# Altium schematic symbol library Interface_I2C.SchLib: 424 symbols (part 18 of 23)
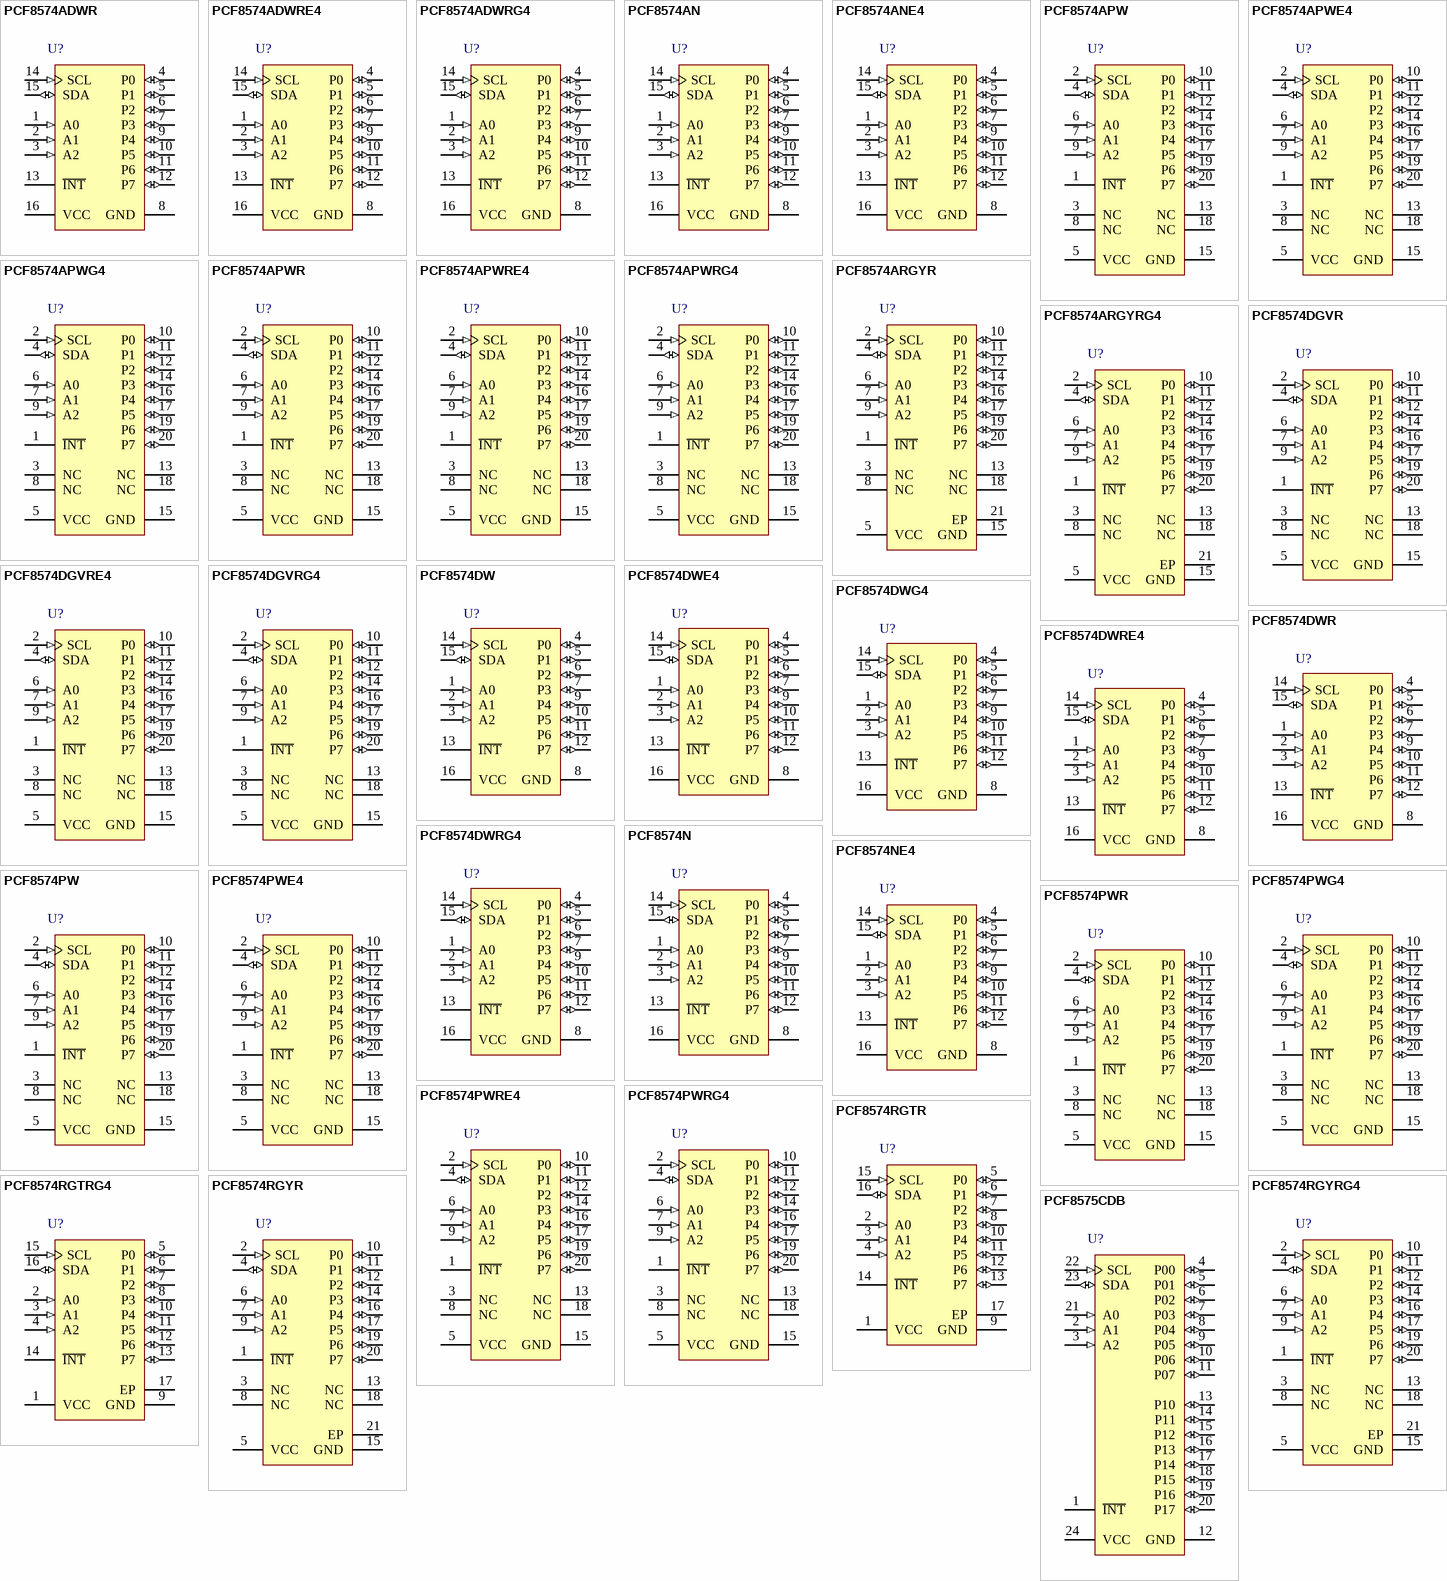
[diagram p30: symbols PCF8574ADWR to PCF8575CDB]

## PCF8574PWR
designator U?
Remote 8-Bit I/O Expander for I2C-Bus, 2.5 to 6 V, -40 to 85 degC, 20-pin TSSOP (PW), Green (RoHS & no Sb/Br); Manufacturer: Texas Instruments; PartNumber: PCF8574PWR; SubFamily: I2C IO Expander; Voltage Nodes(V): 5, 3.3; Interrupt Output: Yes; fSCLK(Max)(MHz): 0.1; VCC(Min)(V): 2.5; VCC(Max)(V): 6; Max Frequency(kHz): 100; I2C Address: 0100 xxx; # of I/Os: 8; Vcc range(V): 2.5 to 6.0; DatasheetVersion: SCPS068G; PackageVersion: revG, Feb-2011; PackageReference: PW20; PackageDescription: 20-Pin Plastic Thin Small Outline Package 6.5 x 4.4 mm Body ,0.65 mm Pitch; Supplier 1: Digi-Key; Supplier Part Number 1: 296-13110-2-ND; Supplier 2: Digi-Key; Supplier Part Number 2: 296-13110-1-ND; Supplier 3: Digi-Key; Supplier Part Number 3: 296-13110-6-ND; Supplier 4: Farnell; Supplier Part Number 4: 2120431; Supplier 5: Newark; Supplier Part Number 5: 94T5013; Supplier 6: Newark; Supplier Part Number 6: 75C5239; Supplier 7: Mouser; Supplier Part Number 7: 595-PCF8574PWR; Eco-Plan: Green (RoHS & no Sb/Br); Reset Input: No; Push-Pull I/O Type: Yes; Mounting Technology: Surface Mount; Code_JEDEC: MO-153; ComponentLink1Description: Datasheet; ComponentLink1URL: http://www.ti.com/general/docs/lit/getliterature.tsp?genericPartNumber=PCF8574&fileType=pdf
footprint PW20_N (TSOP, 20-Leads, Body 6.5x4.4mm, Pitch 0.65mm, IPC Medium Density)
footprint PW20_L (TSOP, 20-Leads, Body 6.5x4.4mm, Pitch 0.65mm, IPC High Density)
footprint PW20_M (TSOP, 20-Leads, Body 6.5x4.4mm, Pitch 0.65mm, IPC Low Density)
pins: 1 ~{INT} (oc), 2 SCL (in), 3 NC, 4 SDA (io), 5 VCC (power), 6 A0 (in), 7 A1 (in), 8 NC, 9 A2 (in), 10 P0 (io), 11 P1 (io), 12 P2 (io), 13 NC, 14 P3 (io), 15 GND (power), 16 P4 (io), 17 P5 (io), 18 NC, 19 P6 (io), 20 P7 (io)

## PCF8574PWRE4
designator U?
Remote 8-Bit I/O Expander for I2C-Bus, 2.5 to 6 V, -40 to 85 degC, 20-pin TSSOP (PW), Green (RoHS & no Sb/Br); Manufacturer: Texas Instruments; PartNumber: PCF8574PWRE4; SubFamily: I2C IO Expander; Voltage Nodes(V): 5, 3.3; Interrupt Output: Yes; fSCLK(Max)(MHz): 0.1; VCC(Min)(V): 2.5; VCC(Max)(V): 6; Max Frequency(kHz): 100; I2C Address: 0100 xxx; # of I/Os: 8; Vcc range(V): 2.5 to 6.0; DatasheetVersion: SCPS068G; PackageVersion: revG, Feb-2011; PackageReference: PW20; PackageDescription: 20-Pin Plastic Thin Small Outline Package 6.5 x 4.4 mm Body ,0.65 mm Pitch; Supplier 1: Digi-Key; Supplier Part Number 1: PCF8574PWRE4-ND; Supplier 2: Mouser; Supplier Part Number 2: 595-PCF8574PWRE4; Eco-Plan: Green (RoHS & no Sb/Br); Reset Input: No; Push-Pull I/O Type: Yes; Mounting Technology: Surface Mount; Code_JEDEC: MO-153; ComponentLink1Description: Datasheet; ComponentLink1URL: http://www.ti.com/general/docs/lit/getliterature.tsp?genericPartNumber=PCF8574&fileType=pdf
footprint PW20_N (TSOP, 20-Leads, Body 6.5x4.4mm, Pitch 0.65mm, IPC Medium Density)
footprint PW20_L (TSOP, 20-Leads, Body 6.5x4.4mm, Pitch 0.65mm, IPC High Density)
footprint PW20_M (TSOP, 20-Leads, Body 6.5x4.4mm, Pitch 0.65mm, IPC Low Density)
pins: 1 ~{INT} (oc), 2 SCL (in), 3 NC, 4 SDA (io), 5 VCC (power), 6 A0 (in), 7 A1 (in), 8 NC, 9 A2 (in), 10 P0 (io), 11 P1 (io), 12 P2 (io), 13 NC, 14 P3 (io), 15 GND (power), 16 P4 (io), 17 P5 (io), 18 NC, 19 P6 (io), 20 P7 (io)

## PCF8574PWRG4
designator U?
Remote 8-Bit I/O Expander for I2C-Bus, 2.5 to 6 V, -40 to 85 degC, 20-pin TSSOP (PW), Green (RoHS & no Sb/Br); Manufacturer: Texas Instruments; PartNumber: PCF8574PWRG4; SubFamily: I2C IO Expander; Voltage Nodes(V): 5, 3.3; Interrupt Output: Yes; fSCLK(Max)(MHz): 0.1; VCC(Min)(V): 2.5; VCC(Max)(V): 6; Max Frequency(kHz): 100; I2C Address: 0100 xxx; # of I/Os: 8; Vcc range(V): 2.5 to 6.0; DatasheetVersion: SCPS068G; PackageVersion: revG, Feb-2011; PackageReference: PW20; PackageDescription: 20-Pin Plastic Thin Small Outline Package 6.5 x 4.4 mm Body ,0.65 mm Pitch; Supplier 1: Digi-Key; Supplier Part Number 1: PCF8574PWRG4-ND; Supplier 2: Mouser; Supplier Part Number 2: 595-PCF8574PWRG4; Eco-Plan: Green (RoHS & no Sb/Br); Reset Input: No; Push-Pull I/O Type: Yes; Mounting Technology: Surface Mount; Code_JEDEC: MO-153; ComponentLink1Description: Datasheet; ComponentLink1URL: http://www.ti.com/general/docs/lit/getliterature.tsp?genericPartNumber=PCF8574&fileType=pdf
footprint PW20_N (TSOP, 20-Leads, Body 6.5x4.4mm, Pitch 0.65mm, IPC Medium Density)
footprint PW20_L (TSOP, 20-Leads, Body 6.5x4.4mm, Pitch 0.65mm, IPC High Density)
footprint PW20_M (TSOP, 20-Leads, Body 6.5x4.4mm, Pitch 0.65mm, IPC Low Density)
pins: 1 ~{INT} (oc), 2 SCL (in), 3 NC, 4 SDA (io), 5 VCC (power), 6 A0 (in), 7 A1 (in), 8 NC, 9 A2 (in), 10 P0 (io), 11 P1 (io), 12 P2 (io), 13 NC, 14 P3 (io), 15 GND (power), 16 P4 (io), 17 P5 (io), 18 NC, 19 P6 (io), 20 P7 (io)

## PCF8574RGTR
designator U?
Remote 8-Bit I/O Expander for I2C-Bus, 2.5 to 6 V, -40 to 85 degC, 16-pin QFN (RGT), Green (RoHS & no Sb/Br); Manufacturer: Texas Instruments; PartNumber: PCF8574RGTR; SubFamily: I2C IO Expander; Voltage Nodes(V): 5, 3.3; Interrupt Output: Yes; fSCLK(Max)(MHz): 0.1; VCC(Min)(V): 2.5; VCC(Max)(V): 6; Max Frequency(kHz): 100; I2C Address: 0100 xxx; # of I/Os: 8; Vcc range(V): 2.5 to 6.0; DatasheetVersion: SCPS068G; PackageVersion: revH, Oct-2011; PackageReference: RGT16-1600X1600TP; PackageDescription: 16-Pin Plastic Quad Flatpack No-Lead, 3 x 3 mm Body, 0.5 mm Pitch; Supplier 1: Digi-Key; Supplier Part Number 1: 296-21238-2-ND; Supplier 2: Digi-Key; Supplier Part Number 2: 296-21238-1-ND; Supplier 3: Digi-Key; Supplier Part Number 3: 296-21238-6-ND; Supplier 4: Mouser; Supplier Part Number 4: 595-PCF8574RGTR; Eco-Plan: Green (RoHS & no Sb/Br); Reset Input: No; Push-Pull I/O Type: Yes; Mounting Technology: Surface Mount; Code_JEDEC: MO-220; ComponentLink1Description: Datasheet; ComponentLink1URL: http://www.ti.com/general/docs/lit/getliterature.tsp?genericPartNumber=PCF8574&fileType=pdf; ComponentLink2Description: Package Specification; ComponentLink2URL: http://www.ti.com/litv/pdf/mpds006c
footprint RGT16-1600X1600TP (QFN, 16-Leads, Body 3x3mm, Pitch 0.5mm, Thermal Pad 1.6x1.6mm, TI Recommended)
pins: 1 VCC (power), 2 A0 (in), 3 A1 (in), 4 A2 (in), 5 P0 (io), 6 P1 (io), 7 P2 (io), 8 P3 (io), 9 GND (power), 10 P4 (io), 11 P5 (io), 12 P6 (io), 13 P7 (io), 14 ~{INT} (oc), 15 SCL (in), 16 SDA (io), 17 EP

## PCF8574RGTRG4
designator U?
Remote 8-Bit I/O Expander for I2C-Bus, 2.5 to 6 V, -40 to 85 degC, 16-pin QFN (RGT), Green (RoHS & no Sb/Br); Manufacturer: Texas Instruments; PartNumber: PCF8574RGTRG4; SubFamily: I2C IO Expander; Voltage Nodes(V): 5, 3.3; Interrupt Output: Yes; fSCLK(Max)(MHz): 0.1; VCC(Min)(V): 2.5; VCC(Max)(V): 6; Max Frequency(kHz): 100; I2C Address: 0100 xxx; # of I/Os: 8; Vcc range(V): 2.5 to 6.0; DatasheetVersion: SCPS068G; PackageVersion: revH, Oct-2011; PackageReference: RGT16-1600X1600TP; PackageDescription: 16-Pin Plastic Quad Flatpack No-Lead, 3 x 3 mm Body, 0.5 mm Pitch; Supplier 1: Digi-Key; Supplier Part Number 1: PCF8574RGTRG4-ND; Supplier 2: Mouser; Supplier Part Number 2: 595-PCF8574RGTRG4; Eco-Plan: Green (RoHS & no Sb/Br); Reset Input: No; Push-Pull I/O Type: Yes; Mounting Technology: Surface Mount; Code_JEDEC: MO-220; ComponentLink1Description: Datasheet; ComponentLink1URL: http://www.ti.com/general/docs/lit/getliterature.tsp?genericPartNumber=PCF8574&fileType=pdf; ComponentLink2Description: Package Specification; ComponentLink2URL: http://www.ti.com/litv/pdf/mpds006c
footprint RGT16-1600X1600TP (QFN, 16-Leads, Body 3x3mm, Pitch 0.5mm, Thermal Pad 1.6x1.6mm, TI Recommended)
pins: 1 VCC (power), 2 A0 (in), 3 A1 (in), 4 A2 (in), 5 P0 (io), 6 P1 (io), 7 P2 (io), 8 P3 (io), 9 GND (power), 10 P4 (io), 11 P5 (io), 12 P6 (io), 13 P7 (io), 14 ~{INT} (oc), 15 SCL (in), 16 SDA (io), 17 EP

## PCF8574RGYR
designator U?
Remote 8-Bit I/O Expander for I2C-Bus, 2.5 to 6 V, -40 to 85 degC, 20-pin VQFN (RGY), Green (RoHS & no Sb/Br); Manufacturer: Texas Instruments; PartNumber: PCF8574RGYR; SubFamily: I2C IO Expander; Voltage Nodes(V): 5, 3.3; Interrupt Output: Yes; fSCLK(Max)(MHz): 0.1; VCC(Min)(V): 2.5; VCC(Max)(V): 6; Max Frequency(kHz): 100; I2C Address: 0100 xxx; # of I/Os: 8; Vcc range(V): 2.5 to 6.0; DatasheetVersion: SCPS068G; PackageVersion: revI, Jun-2011; PackageReference: RGY20-3050X2050TP; PackageDescription: 20-Leads Plastic Quad Flatpack No-Lead, 3.5 x 4.5 x 0.9 mm Body, 0.5 mm Pitch; Supplier 1: Digi-Key; Supplier Part Number 1: 296-15173-2-ND; Supplier 2: Digi-Key; Supplier Part Number 2: 296-15173-1-ND; Supplier 3: Digi-Key; Supplier Part Number 3: 296-15173-6-ND; Supplier 4: Mouser; Supplier Part Number 4: 595-PCF8574RGYR; Eco-Plan: Green (RoHS & no Sb/Br); Reset Input: No; Push-Pull I/O Type: Yes; Mounting Technology: Surface Mount; Code_JEDEC: MO-241-BA; ComponentLink1Description: Datasheet; ComponentLink1URL: http://www.ti.com/general/docs/lit/getliterature.tsp?genericPartNumber=PCF8574&fileType=pdf; ComponentLink2Description: Package Specification; ComponentLink2URL: http://www.ti.com/litv/pdf/mpss024a
footprint RGY20-3050X2050TP (QFN, 20-Leads, Body 4.5x3.5mm, Pitch 0.5mm, Thermal Pad 3.05x2.05mm, TI Recommended)
pins: 1 ~{INT} (oc), 2 SCL (in), 3 NC, 4 SDA (io), 5 VCC (power), 6 A0 (in), 7 A1 (in), 8 NC, 9 A2 (in), 10 P0 (io), 11 P1 (io), 12 P2 (io), 13 NC, 14 P3 (io), 15 GND (power), 16 P4 (io), 17 P5 (io), 18 NC, 19 P6 (io), 20 P7 (io), 21 EP

## PCF8574RGYRG4
designator U?
Remote 8-Bit I/O Expander for I2C-Bus, 2.5 to 6 V, -40 to 85 degC, 20-pin VQFN (RGY), Green (RoHS & no Sb/Br); Manufacturer: Texas Instruments; PartNumber: PCF8574RGYRG4; SubFamily: I2C IO Expander; Voltage Nodes(V): 5, 3.3; Interrupt Output: Yes; fSCLK(Max)(MHz): 0.1; VCC(Min)(V): 2.5; VCC(Max)(V): 6; Max Frequency(kHz): 100; I2C Address: 0100 xxx; # of I/Os: 8; Vcc range(V): 2.5 to 6.0; DatasheetVersion: SCPS068G; PackageVersion: revI, Jun-2011; PackageReference: RGY20-3050X2050TP; PackageDescription: 20-Leads Plastic Quad Flatpack No-Lead, 3.5 x 4.5 x 0.9 mm Body, 0.5 mm Pitch; Supplier 1: Digi-Key; Supplier Part Number 1: PCF8574RGYRG4-ND; Supplier 2: Mouser; Supplier Part Number 2: 595-PCF8574RGYRG4; Eco-Plan: Green (RoHS & no Sb/Br); Reset Input: No; Push-Pull I/O Type: Yes; Mounting Technology: Surface Mount; Code_JEDEC: MO-241-BA; ComponentLink1Description: Datasheet; ComponentLink1URL: http://www.ti.com/general/docs/lit/getliterature.tsp?genericPartNumber=PCF8574&fileType=pdf; ComponentLink2Description: Package Specification; ComponentLink2URL: http://www.ti.com/litv/pdf/mpss024a
footprint RGY20-3050X2050TP (QFN, 20-Leads, Body 4.5x3.5mm, Pitch 0.5mm, Thermal Pad 3.05x2.05mm, TI Recommended)
pins: 1 ~{INT} (oc), 2 SCL (in), 3 NC, 4 SDA (io), 5 VCC (power), 6 A0 (in), 7 A1 (in), 8 NC, 9 A2 (in), 10 P0 (io), 11 P1 (io), 12 P2 (io), 13 NC, 14 P3 (io), 15 GND (power), 16 P4 (io), 17 P5 (io), 18 NC, 19 P6 (io), 20 P7 (io), 21 EP

## PCF8575CDB
designator U?
Remote 16-Bit I2C and SMBus Low-Power I/O Expander with Interrupt Output, 4.5 to 5.5 V, -40 to 85 degC, 24-pin SSOP (DB), Green (RoHS & no Sb/Br); Manufacturer: Texas Instruments; PartNumber: PCF8575CDB; SubFamily: I2C IO Expander; Voltage Nodes(V): 5; Interrupt Output: Yes; fSCLK(Max)(MHz): 0.4; VCC(Min)(V): 4.5; VCC(Max)(V): 5.5; Max Frequency(kHz): 400; I2C Address: 0100 xxx; # of I/Os: 16; DatasheetVersion: SCPS123E; PackageVersion: revE, Dec-2001; PackageReference: DB24; PackageDescription: 24-Pin Plastic Small Outline Package, 8.2 x 5.3 mm Body, 0.65 mm Pitch; Supplier 1: Digi-Key; Supplier Part Number 1: PCF8575CDB-ND; Supplier 2: Mouser; Supplier Part Number 2: 595-PCF8575CDB; Eco-Plan: Green (RoHS & no Sb/Br); Reset Input: No; Vcc range(V): 4.5 to 5.5; Open Drain I/O Type: Yes; Mounting Technology: Surface Mount; Code_JEDEC: MO-150; ComponentLink1Description: Datasheet; ComponentLink1URL: http://www.ti.com/general/docs/lit/getliterature.tsp?genericPartNumber=PCF8575C&fileType=pdf; ComponentLink2Description: Package Specification; ComponentLink2URL: http://www.ti.com/litv/pdf/msso002e
footprint DB24_N (SOP, 24-Leads, Body 8.2x5.3mm, Pitch 0.65mm, IPC Medium Density)
footprint DB24_L (SOP, 24-Leads, Body 8.2x5.3mm, Pitch 0.65mm, IPC High Density)
footprint DB24_M (SOP, 24-Leads, Body 8.2x5.3mm, Pitch 0.65mm, IPC Low Density)
pins: 1 ~{INT} (oc) "Interrupt output. Connect to VCC through a pullup resistor.", 2 A1 (in) "Address input 1. Connect directly to VCC or ground. Pullup resistors are not needed.", 3 A2 (in) "Address input 2. Connect directly to VCC or ground. Pullup resistors are not needed.", 4 P00 (io) "P-port input/output. Push-pull design structure.Connect to VCC through a pullup resistor.", 5 P01 (io) "P-port input/output. Push-pull design structure.Connect to VCC through a pullup resistor.", 6 P02 (io) "P-port input/output. Push-pull design structure.Connect to VCC through a pullup resistor.", 7 P03 (io) "P-port input/output. Push-pull design structure.Connect to VCC through a pullup resistor.", 8 P04 (io) "P-port input/output. Push-pull design structure.Connect to VCC through a pullup resistor.", 9 P05 (io) "P-port input/output. Push-pull design structure.Connect to VCC through a pullup resistor.", 10 P06 (io) "P-port input/output. Push-pull design structure.Connect to VCC through a pullup resistor.", 11 P07 (io) "P-port input/output. Push-pull design structure.Connect to VCC through a pullup resistor.", 12 GND (power) "Ground", 13 P10 (io) "P-port input/output. Push-pull design structure.Connect to VCC through a pullup resistor.", 14 P11 (io) "P-port input/output. Push-pull design structure.Connect to VCC through a pullup resistor.", 15 P12 (io) "P-port input/output. Push-pull design structure.Connect to VCC through a pullup resistor.", 16 P13 (io) "P-port input/output. Push-pull design structure.Connect to VCC through a pullup resistor.", 17 P14 (io) "P-port input/output. Push-pull design structure.Connect to VCC through a pullup resistor.", 18 P15 (io) "P-port input/output. Push-pull design structure.Connect to VCC through a pullup resistor.", 19 P16 (io) "P-port input/output. Push-pull design structure.Connect to VCC through a pullup resistor.", 20 P17 (io) "P-port input/output. Push-pull design structure.Connect to VCC through a pullup resistor.", 21 A0 (in) "Address input 0. Connect directly to VCC or ground. Pullup resistors are not needed.", 22 SCL (in) "Serial clock line. Connect to VCC through a pullup resistor.", 23 SDA (io) "Serial data line. Connect to VCC through a pullup resistor.", 24 VCC (power) "Supply voltage"

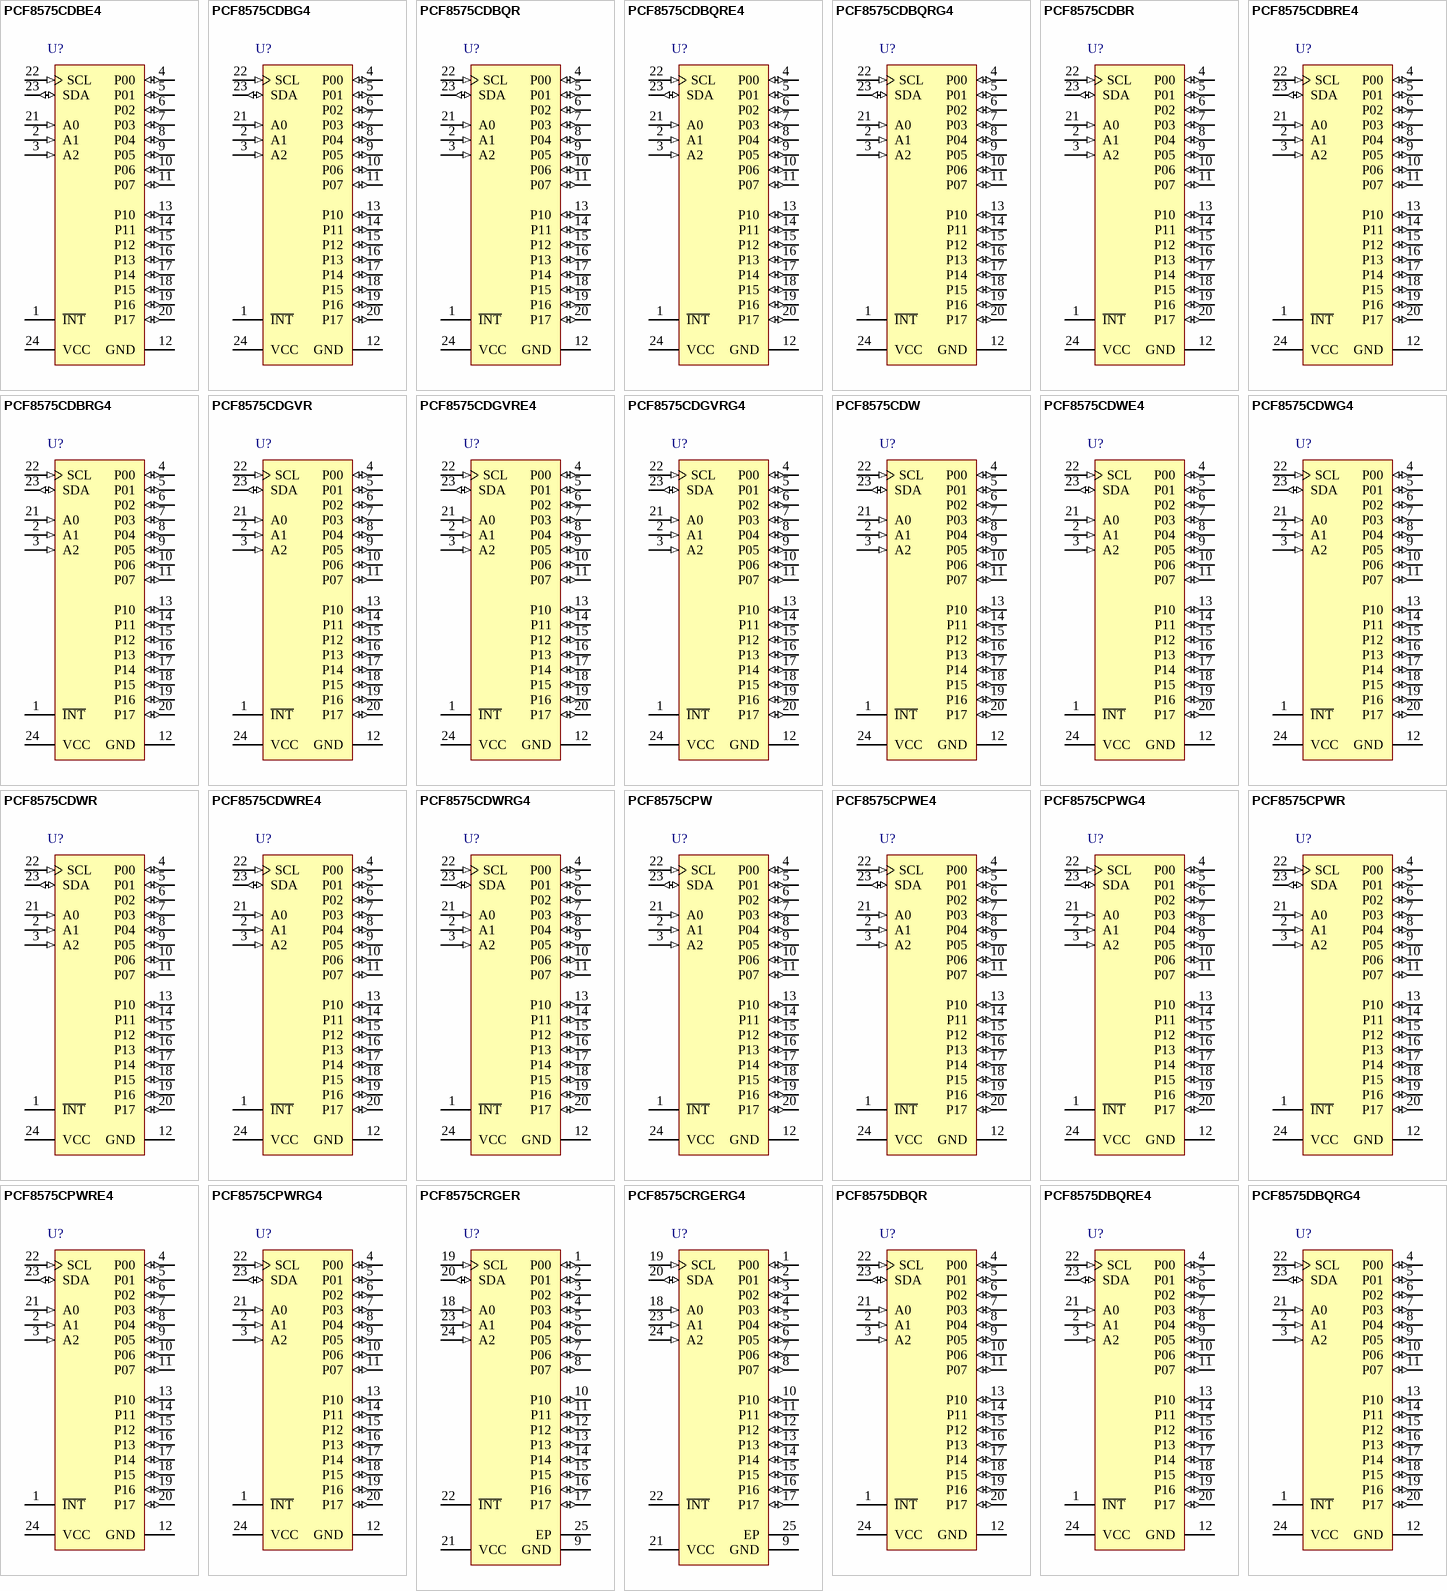
[diagram p11: symbols PCF8575CDBE4 to PCF8575DBQRG4]

## PCF8575CDBE4
designator U?
Remote 16-Bit I2C and SMBus Low-Power I/O Expander with Interrupt Output, 4.5 to 5.5 V, -40 to 85 degC, 24-pin SSOP (DB), Green (RoHS & no Sb/Br); Manufacturer: Texas Instruments; PartNumber: PCF8575CDBE4; SubFamily: I2C IO Expander; Voltage Nodes(V): 5; Interrupt Output: Yes; fSCLK(Max)(MHz): 0.4; VCC(Min)(V): 4.5; VCC(Max)(V): 5.5; Max Frequency(kHz): 400; I2C Address: 0100 xxx; # of I/Os: 16; DatasheetVersion: SCPS123E; PackageVersion: revE, Dec-2001; PackageReference: DB24; PackageDescription: 24-Pin Plastic Small Outline Package, 8.2 x 5.3 mm Body, 0.65 mm Pitch; Supplier 1: Digi-Key; Supplier Part Number 1: PCF8575CDBE4-ND; Supplier 2: Farnell; Supplier Part Number 2: 1053571; Supplier 3: Newark; Supplier Part Number 3: 97K6980; Supplier 4: Mouser; Supplier Part Number 4: 595-PCF8575CDBE4; Eco-Plan: Green (RoHS & no Sb/Br); Reset Input: No; Vcc range(V): 4.5 to 5.5; Open Drain I/O Type: Yes; Mounting Technology: Surface Mount; Code_JEDEC: MO-150; ComponentLink1Description: Datasheet; ComponentLink1URL: http://www.ti.com/general/docs/lit/getliterature.tsp?genericPartNumber=PCF8575C&fileType=pdf; ComponentLink2Description: Package Specification; ComponentLink2URL: http://www.ti.com/litv/pdf/mpds211a
footprint DB24_N (SOP, 24-Leads, Body 8.2x5.3mm, Pitch 0.65mm, IPC Medium Density)
footprint DB24_L (SOP, 24-Leads, Body 8.2x5.3mm, Pitch 0.65mm, IPC High Density)
footprint DB24_M (SOP, 24-Leads, Body 8.2x5.3mm, Pitch 0.65mm, IPC Low Density)
pins: 1 ~{INT} (oc) "Interrupt output. Connect to VCC through a pullup resistor.", 2 A1 (in) "Address input 1. Connect directly to VCC or ground. Pullup resistors are not needed.", 3 A2 (in) "Address input 2. Connect directly to VCC or ground. Pullup resistors are not needed.", 4 P00 (io) "P-port input/output. Push-pull design structure.Connect to VCC through a pullup resistor.", 5 P01 (io) "P-port input/output. Push-pull design structure.Connect to VCC through a pullup resistor.", 6 P02 (io) "P-port input/output. Push-pull design structure.Connect to VCC through a pullup resistor.", 7 P03 (io) "P-port input/output. Push-pull design structure.Connect to VCC through a pullup resistor.", 8 P04 (io) "P-port input/output. Push-pull design structure.Connect to VCC through a pullup resistor.", 9 P05 (io) "P-port input/output. Push-pull design structure.Connect to VCC through a pullup resistor.", 10 P06 (io) "P-port input/output. Push-pull design structure.Connect to VCC through a pullup resistor.", 11 P07 (io) "P-port input/output. Push-pull design structure.Connect to VCC through a pullup resistor.", 12 GND (power) "Ground", 13 P10 (io) "P-port input/output. Push-pull design structure.Connect to VCC through a pullup resistor.", 14 P11 (io) "P-port input/output. Push-pull design structure.Connect to VCC through a pullup resistor.", 15 P12 (io) "P-port input/output. Push-pull design structure.Connect to VCC through a pullup resistor.", 16 P13 (io) "P-port input/output. Push-pull design structure.Connect to VCC through a pullup resistor.", 17 P14 (io) "P-port input/output. Push-pull design structure.Connect to VCC through a pullup resistor.", 18 P15 (io) "P-port input/output. Push-pull design structure.Connect to VCC through a pullup resistor.", 19 P16 (io) "P-port input/output. Push-pull design structure.Connect to VCC through a pullup resistor.", 20 P17 (io) "P-port input/output. Push-pull design structure.Connect to VCC through a pullup resistor.", 21 A0 (in) "Address input 0. Connect directly to VCC or ground. Pullup resistors are not needed.", 22 SCL (in) "Serial clock line. Connect to VCC through a pullup resistor.", 23 SDA (io) "Serial data line. Connect to VCC through a pullup resistor.", 24 VCC (power) "Supply voltage"

## PCF8575CDBG4
designator U?
Remote 16-Bit I2C and SMBus Low-Power I/O Expander with Interrupt Output, 4.5 to 5.5 V, -40 to 85 degC, 24-pin SSOP (DB), Green (RoHS & no Sb/Br); Manufacturer: Texas Instruments; PartNumber: PCF8575CDBG4; SubFamily: I2C IO Expander; Voltage Nodes(V): 5; Interrupt Output: Yes; fSCLK(Max)(MHz): 0.4; VCC(Min)(V): 4.5; VCC(Max)(V): 5.5; Max Frequency(kHz): 400; I2C Address: 0100 xxx; # of I/Os: 16; DatasheetVersion: SCPS123E; PackageVersion: revE, Dec-2001; PackageReference: DB24; PackageDescription: 24-Pin Plastic Small Outline Package, 8.2 x 5.3 mm Body, 0.65 mm Pitch; Supplier 1: Digi-Key; Supplier Part Number 1: PCF8575CDBG4-ND; Supplier 2: Mouser; Supplier Part Number 2: 595-PCF8575CDBG4; Eco-Plan: Green (RoHS & no Sb/Br); Reset Input: No; Vcc range(V): 4.5 to 5.5; Open Drain I/O Type: Yes; Mounting Technology: Surface Mount; Code_JEDEC: MO-150; ComponentLink1Description: Datasheet; ComponentLink1URL: http://www.ti.com/general/docs/lit/getliterature.tsp?genericPartNumber=PCF8575C&fileType=pdf; ComponentLink2Description: Package Specification; ComponentLink2URL: http://www.ti.com/litv/pdf/mpds211a
footprint DB24_N (SOP, 24-Leads, Body 8.2x5.3mm, Pitch 0.65mm, IPC Medium Density)
footprint DB24_L (SOP, 24-Leads, Body 8.2x5.3mm, Pitch 0.65mm, IPC High Density)
footprint DB24_M (SOP, 24-Leads, Body 8.2x5.3mm, Pitch 0.65mm, IPC Low Density)
pins: 1 ~{INT} (oc) "Interrupt output. Connect to VCC through a pullup resistor.", 2 A1 (in) "Address input 1. Connect directly to VCC or ground. Pullup resistors are not needed.", 3 A2 (in) "Address input 2. Connect directly to VCC or ground. Pullup resistors are not needed.", 4 P00 (io) "P-port input/output. Push-pull design structure.Connect to VCC through a pullup resistor.", 5 P01 (io) "P-port input/output. Push-pull design structure.Connect to VCC through a pullup resistor.", 6 P02 (io) "P-port input/output. Push-pull design structure.Connect to VCC through a pullup resistor.", 7 P03 (io) "P-port input/output. Push-pull design structure.Connect to VCC through a pullup resistor.", 8 P04 (io) "P-port input/output. Push-pull design structure.Connect to VCC through a pullup resistor.", 9 P05 (io) "P-port input/output. Push-pull design structure.Connect to VCC through a pullup resistor.", 10 P06 (io) "P-port input/output. Push-pull design structure.Connect to VCC through a pullup resistor.", 11 P07 (io) "P-port input/output. Push-pull design structure.Connect to VCC through a pullup resistor.", 12 GND (power) "Ground", 13 P10 (io) "P-port input/output. Push-pull design structure.Connect to VCC through a pullup resistor.", 14 P11 (io) "P-port input/output. Push-pull design structure.Connect to VCC through a pullup resistor.", 15 P12 (io) "P-port input/output. Push-pull design structure.Connect to VCC through a pullup resistor.", 16 P13 (io) "P-port input/output. Push-pull design structure.Connect to VCC through a pullup resistor.", 17 P14 (io) "P-port input/output. Push-pull design structure.Connect to VCC through a pullup resistor.", 18 P15 (io) "P-port input/output. Push-pull design structure.Connect to VCC through a pullup resistor.", 19 P16 (io) "P-port input/output. Push-pull design structure.Connect to VCC through a pullup resistor.", 20 P17 (io) "P-port input/output. Push-pull design structure.Connect to VCC through a pullup resistor.", 21 A0 (in) "Address input 0. Connect directly to VCC or ground. Pullup resistors are not needed.", 22 SCL (in) "Serial clock line. Connect to VCC through a pullup resistor.", 23 SDA (io) "Serial data line. Connect to VCC through a pullup resistor.", 24 VCC (power) "Supply voltage"

## PCF8575CDBQR
designator U?
Remote 16-Bit I2C and SMBus Low-Power I/O Expander with Interrupt Output, 4.5 to 5.5 V, -40 to 85 degC, 24-pin SSOP (DBQ), Green (RoHS & no Sb/Br); Manufacturer: Texas Instruments; PartNumber: PCF8575CDBQR; SubFamily: I2C IO Expander; Voltage Nodes(V): 5; Interrupt Output: Yes; fSCLK(Max)(MHz): 0.4; VCC(Min)(V): 4.5; VCC(Max)(V): 5.5; Max Frequency(kHz): 400; I2C Address: 0100 xxx; # of I/Os: 16; DatasheetVersion: SCPS123E; PackageVersion: revH, Oct-2008; PackageReference: DBQ24; PackageDescription: 24-Pin Small Outline Package 0.635 mm Pitch; Supplier 1: Digi-Key; Supplier Part Number 1: 296-17913-2-ND; Supplier 2: Digi-Key; Supplier Part Number 2: 296-17913-1-ND; Supplier 3: Digi-Key; Supplier Part Number 3: 296-17913-6-ND; Supplier 4: Mouser; Supplier Part Number 4: 595-PCF8575CDBQR; Eco-Plan: Green (RoHS & no Sb/Br); Reset Input: No; Vcc range(V): 4.5 to 5.5; Open Drain I/O Type: Yes; Mounting Technology: Surface Mount; Code_JEDEC: MO-137-AE; ComponentLink1Description: Datasheet; ComponentLink1URL: http://www.ti.com/general/docs/lit/getliterature.tsp?genericPartNumber=PCF8575C&fileType=pdf; ComponentLink2Description: Package Specification; ComponentLink2URL: http://www.ti.com/litv/pdf/mpds211a
footprint DBQ024_N (SOP, 24-Leads, Body 8.7x3.9mm, Pitch 0.635mm, IPC Medium Density)
footprint DBQ024_L (SOP, 24-Leads, Body 8.7x3.9mm, Pitch 0.635mm, IPC High Density)
footprint DBQ024_M (SOP, 24-Leads, Body 8.7x3.9mm, Pitch 0.635mm, IPC Low Density)
pins: 1 ~{INT} (oc) "Interrupt output. Connect to VCC through a pullup resistor.", 2 A1 (in) "Address input 1. Connect directly to VCC or ground. Pullup resistors are not needed.", 3 A2 (in) "Address input 2. Connect directly to VCC or ground. Pullup resistors are not needed.", 4 P00 (io) "P-port input/output. Push-pull design structure.Connect to VCC through a pullup resistor.", 5 P01 (io) "P-port input/output. Push-pull design structure.Connect to VCC through a pullup resistor.", 6 P02 (io) "P-port input/output. Push-pull design structure.Connect to VCC through a pullup resistor.", 7 P03 (io) "P-port input/output. Push-pull design structure.Connect to VCC through a pullup resistor.", 8 P04 (io) "P-port input/output. Push-pull design structure.Connect to VCC through a pullup resistor.", 9 P05 (io) "P-port input/output. Push-pull design structure.Connect to VCC through a pullup resistor.", 10 P06 (io) "P-port input/output. Push-pull design structure.Connect to VCC through a pullup resistor.", 11 P07 (io) "P-port input/output. Push-pull design structure.Connect to VCC through a pullup resistor.", 12 GND (power) "Ground", 13 P10 (io) "P-port input/output. Push-pull design structure.Connect to VCC through a pullup resistor.", 14 P11 (io) "P-port input/output. Push-pull design structure.Connect to VCC through a pullup resistor.", 15 P12 (io) "P-port input/output. Push-pull design structure.Connect to VCC through a pullup resistor.", 16 P13 (io) "P-port input/output. Push-pull design structure.Connect to VCC through a pullup resistor.", 17 P14 (io) "P-port input/output. Push-pull design structure.Connect to VCC through a pullup resistor.", 18 P15 (io) "P-port input/output. Push-pull design structure.Connect to VCC through a pullup resistor.", 19 P16 (io) "P-port input/output. Push-pull design structure.Connect to VCC through a pullup resistor.", 20 P17 (io) "P-port input/output. Push-pull design structure.Connect to VCC through a pullup resistor.", 21 A0 (in) "Address input 0. Connect directly to V CC or ground. Pullup resistors are not needed", 22 SCL (in) "Serial clock line. Connect to VCC through a pullup resistor.", 23 SDA (io) "Serial data line. Connect to VCC through a pullup resistor.", 24 VCC (power) "Supply voltage"

## PCF8575CDBQRE4
designator U?
Remote 16-Bit I2C and SMBus Low-Power I/O Expander with Interrupt Output, 4.5 to 5.5 V, -40 to 85 degC, 24-pin SSOP (DBQ), Green (RoHS & no Sb/Br); Manufacturer: Texas Instruments; PartNumber: PCF8575CDBQRE4; SubFamily: I2C IO Expander; Voltage Nodes(V): 5; Interrupt Output: Yes; fSCLK(Max)(MHz): 0.4; VCC(Min)(V): 4.5; VCC(Max)(V): 5.5; Max Frequency(kHz): 400; I2C Address: 0100 xxx; # of I/Os: 16; DatasheetVersion: SCPS123E; PackageVersion: revH, Oct-2008; PackageReference: DBQ24; PackageDescription: 24-Pin Small Outline Package 0.635 mm Pitch; Supplier 1: Digi-Key; Supplier Part Number 1: PCF8575CDBQRE4-ND; Supplier 2: Mouser; Supplier Part Number 2: 595-PCF8575CDBQRE4; Eco-Plan: Green (RoHS & no Sb/Br); Reset Input: No; Vcc range(V): 4.5 to 5.5; Open Drain I/O Type: Yes; Mounting Technology: Surface Mount; Code_JEDEC: MO-137-AE; ComponentLink1Description: Datasheet; ComponentLink1URL: http://www.ti.com/general/docs/lit/getliterature.tsp?genericPartNumber=PCF8575C&fileType=pdf; ComponentLink2Description: Package Specification; ComponentLink2URL: http://www.ti.com/litv/pdf/mpds211a
footprint DBQ024_N (SOP, 24-Leads, Body 8.7x3.9mm, Pitch 0.635mm, IPC Medium Density)
footprint DBQ024_L (SOP, 24-Leads, Body 8.7x3.9mm, Pitch 0.635mm, IPC High Density)
footprint DBQ024_M (SOP, 24-Leads, Body 8.7x3.9mm, Pitch 0.635mm, IPC Low Density)
pins: 1 ~{INT} (oc) "Interrupt output. Connect to VCC through a pullup resistor.", 2 A1 (in) "Address input 1. Connect directly to VCC or ground. Pullup resistors are not needed.", 3 A2 (in) "Address input 2. Connect directly to VCC or ground. Pullup resistors are not needed.", 4 P00 (io) "P-port input/output. Push-pull design structure.Connect to VCC through a pullup resistor.", 5 P01 (io) "P-port input/output. Push-pull design structure.Connect to VCC through a pullup resistor.", 6 P02 (io) "P-port input/output. Push-pull design structure.Connect to VCC through a pullup resistor.", 7 P03 (io) "P-port input/output. Push-pull design structure.Connect to VCC through a pullup resistor.", 8 P04 (io) "P-port input/output. Push-pull design structure.Connect to VCC through a pullup resistor.", 9 P05 (io) "P-port input/output. Push-pull design structure.Connect to VCC through a pullup resistor.", 10 P06 (io) "P-port input/output. Push-pull design structure.Connect to VCC through a pullup resistor.", 11 P07 (io) "P-port input/output. Push-pull design structure.Connect to VCC through a pullup resistor.", 12 GND (power) "Ground", 13 P10 (io) "P-port input/output. Push-pull design structure.Connect to VCC through a pullup resistor.", 14 P11 (io) "P-port input/output. Push-pull design structure.Connect to VCC through a pullup resistor.", 15 P12 (io) "P-port input/output. Push-pull design structure.Connect to VCC through a pullup resistor.", 16 P13 (io) "P-port input/output. Push-pull design structure.Connect to VCC through a pullup resistor.", 17 P14 (io) "P-port input/output. Push-pull design structure.Connect to VCC through a pullup resistor.", 18 P15 (io) "P-port input/output. Push-pull design structure.Connect to VCC through a pullup resistor.", 19 P16 (io) "P-port input/output. Push-pull design structure.Connect to VCC through a pullup resistor.", 20 P17 (io) "P-port input/output. Push-pull design structure.Connect to VCC through a pullup resistor.", 21 A0 (in) "Address input 0. Connect directly to V CC or ground. Pullup resistors are not needed", 22 SCL (in) "Serial clock line. Connect to VCC through a pullup resistor.", 23 SDA (io) "Serial data line. Connect to VCC through a pullup resistor.", 24 VCC (power) "Supply voltage"

## PCF8575CDBQRG4
designator U?
Remote 16-Bit I2C and SMBus Low-Power I/O Expander with Interrupt Output, 4.5 to 5.5 V, -40 to 85 degC, 24-pin SSOP (DBQ), Green (RoHS & no Sb/Br); Manufacturer: Texas Instruments; PartNumber: PCF8575CDBQRG4; SubFamily: I2C IO Expander; Voltage Nodes(V): 5; Interrupt Output: Yes; fSCLK(Max)(MHz): 0.4; VCC(Min)(V): 4.5; VCC(Max)(V): 5.5; Max Frequency(kHz): 400; I2C Address: 0100 xxx; # of I/Os: 16; DatasheetVersion: SCPS123E; PackageVersion: revH, Oct-2008; PackageReference: DBQ24; PackageDescription: 24-Pin Small Outline Package 0.635 mm Pitch; Supplier 1: Digi-Key; Supplier Part Number 1: PCF8575CDBQRG4-ND; Supplier 2: Mouser; Supplier Part Number 2: 595-PCF8575CDBQRG4; Eco-Plan: Green (RoHS & no Sb/Br); Reset Input: No; Vcc range(V): 4.5 to 5.5; Open Drain I/O Type: Yes; Mounting Technology: Surface Mount; Code_JEDEC: MO-137-AE; ComponentLink1Description: Datasheet; ComponentLink1URL: http://www.ti.com/general/docs/lit/getliterature.tsp?genericPartNumber=PCF8575C&fileType=pdf; ComponentLink2Description: Package Specification; ComponentLink2URL: http://www.ti.com/litv/pdf/mpds211a
footprint DBQ024_N (SOP, 24-Leads, Body 8.7x3.9mm, Pitch 0.635mm, IPC Medium Density)
footprint DBQ024_L (SOP, 24-Leads, Body 8.7x3.9mm, Pitch 0.635mm, IPC High Density)
footprint DBQ024_M (SOP, 24-Leads, Body 8.7x3.9mm, Pitch 0.635mm, IPC Low Density)
pins: 1 ~{INT} (oc) "Interrupt output. Connect to VCC through a pullup resistor.", 2 A1 (in) "Address input 1. Connect directly to VCC or ground. Pullup resistors are not needed.", 3 A2 (in) "Address input 2. Connect directly to VCC or ground. Pullup resistors are not needed.", 4 P00 (io) "P-port input/output. Push-pull design structure.Connect to VCC through a pullup resistor.", 5 P01 (io) "P-port input/output. Push-pull design structure.Connect to VCC through a pullup resistor.", 6 P02 (io) "P-port input/output. Push-pull design structure.Connect to VCC through a pullup resistor.", 7 P03 (io) "P-port input/output. Push-pull design structure.Connect to VCC through a pullup resistor.", 8 P04 (io) "P-port input/output. Push-pull design structure.Connect to VCC through a pullup resistor.", 9 P05 (io) "P-port input/output. Push-pull design structure.Connect to VCC through a pullup resistor.", 10 P06 (io) "P-port input/output. Push-pull design structure.Connect to VCC through a pullup resistor.", 11 P07 (io) "P-port input/output. Push-pull design structure.Connect to VCC through a pullup resistor.", 12 GND (power) "Ground", 13 P10 (io) "P-port input/output. Push-pull design structure.Connect to VCC through a pullup resistor.", 14 P11 (io) "P-port input/output. Push-pull design structure.Connect to VCC through a pullup resistor.", 15 P12 (io) "P-port input/output. Push-pull design structure.Connect to VCC through a pullup resistor.", 16 P13 (io) "P-port input/output. Push-pull design structure.Connect to VCC through a pullup resistor.", 17 P14 (io) "P-port input/output. Push-pull design structure.Connect to VCC through a pullup resistor.", 18 P15 (io) "P-port input/output. Push-pull design structure.Connect to VCC through a pullup resistor.", 19 P16 (io) "P-port input/output. Push-pull design structure.Connect to VCC through a pullup resistor.", 20 P17 (io) "P-port input/output. Push-pull design structure.Connect to VCC through a pullup resistor.", 21 A0 (in) "Address input 0. Connect directly to V CC or ground. Pullup resistors are not needed", 22 SCL (in) "Serial clock line. Connect to VCC through a pullup resistor.", 23 SDA (io) "Serial data line. Connect to VCC through a pullup resistor.", 24 VCC (power) "Supply voltage"

## PCF8575CDBR
designator U?
Remote 16-Bit I2C and SMBus Low-Power I/O Expander with Interrupt Output, 4.5 to 5.5 V, -40 to 85 degC, 24-pin SSOP (DB), Green (RoHS & no Sb/Br); Manufacturer: Texas Instruments; PartNumber: PCF8575CDBR; SubFamily: I2C IO Expander; Voltage Nodes(V): 5; Interrupt Output: Yes; fSCLK(Max)(MHz): 0.4; VCC(Min)(V): 4.5; VCC(Max)(V): 5.5; Max Frequency(kHz): 400; I2C Address: 0100 xxx; # of I/Os: 16; DatasheetVersion: SCPS123E; PackageVersion: revE, Dec-2001; PackageReference: DB24; PackageDescription: 24-Pin Plastic Small Outline Package, 8.2 x 5.3 mm Body, 0.65 mm Pitch; Supplier 1: Digi-Key; Supplier Part Number 1: 296-20979-2-ND; Supplier 2: Digi-Key; Supplier Part Number 2: 296-20979-1-ND; Supplier 3: Digi-Key; Supplier Part Number 3: 296-20979-6-ND; Supplier 4: Mouser; Supplier Part Number 4: 595-PCF8575CDBR; Eco-Plan: Green (RoHS & no Sb/Br); Reset Input: No; Vcc range(V): 4.5 to 5.5; Open Drain I/O Type: Yes; Mounting Technology: Surface Mount; Code_JEDEC: MO-150; ComponentLink1Description: Datasheet; ComponentLink1URL: http://www.ti.com/general/docs/lit/getliterature.tsp?genericPartNumber=PCF8575C&fileType=pdf; ComponentLink2Description: Package Specification; ComponentLink2URL: http://www.ti.com/litv/pdf/mpds211a
footprint DB24_N (SOP, 24-Leads, Body 8.2x5.3mm, Pitch 0.65mm, IPC Medium Density)
footprint DB24_L (SOP, 24-Leads, Body 8.2x5.3mm, Pitch 0.65mm, IPC High Density)
footprint DB24_M (SOP, 24-Leads, Body 8.2x5.3mm, Pitch 0.65mm, IPC Low Density)
pins: 1 ~{INT} (oc) "Interrupt output. Connect to VCC through a pullup resistor.", 2 A1 (in) "Address input 1. Connect directly to VCC or ground. Pullup resistors are not needed.", 3 A2 (in) "Address input 2. Connect directly to VCC or ground. Pullup resistors are not needed.", 4 P00 (io) "P-port input/output. Push-pull design structure.Connect to VCC through a pullup resistor.", 5 P01 (io) "P-port input/output. Push-pull design structure.Connect to VCC through a pullup resistor.", 6 P02 (io) "P-port input/output. Push-pull design structure.Connect to VCC through a pullup resistor.", 7 P03 (io) "P-port input/output. Push-pull design structure.Connect to VCC through a pullup resistor.", 8 P04 (io) "P-port input/output. Push-pull design structure.Connect to VCC through a pullup resistor.", 9 P05 (io) "P-port input/output. Push-pull design structure.Connect to VCC through a pullup resistor.", 10 P06 (io) "P-port input/output. Push-pull design structure.Connect to VCC through a pullup resistor.", 11 P07 (io) "P-port input/output. Push-pull design structure.Connect to VCC through a pullup resistor.", 12 GND (power) "Ground", 13 P10 (io) "P-port input/output. Push-pull design structure.Connect to VCC through a pullup resistor.", 14 P11 (io) "P-port input/output. Push-pull design structure.Connect to VCC through a pullup resistor.", 15 P12 (io) "P-port input/output. Push-pull design structure.Connect to VCC through a pullup resistor.", 16 P13 (io) "P-port input/output. Push-pull design structure.Connect to VCC through a pullup resistor.", 17 P14 (io) "P-port input/output. Push-pull design structure.Connect to VCC through a pullup resistor.", 18 P15 (io) "P-port input/output. Push-pull design structure.Connect to VCC through a pullup resistor.", 19 P16 (io) "P-port input/output. Push-pull design structure.Connect to VCC through a pullup resistor.", 20 P17 (io) "P-port input/output. Push-pull design structure.Connect to VCC through a pullup resistor.", 21 A0 (in) "Address input 0. Connect directly to VCC or ground. Pullup resistors are not needed.", 22 SCL (in) "Serial clock line. Connect to VCC through a pullup resistor.", 23 SDA (io) "Serial data line. Connect to VCC through a pullup resistor.", 24 VCC (power) "Supply voltage"

## PCF8575CDBRE4
designator U?
Remote 16-Bit I2C and SMBus Low-Power I/O Expander with Interrupt Output, 4.5 to 5.5 V, -40 to 85 degC, 24-pin SSOP (DB), Green (RoHS & no Sb/Br); Manufacturer: Texas Instruments; PartNumber: PCF8575CDBRE4; SubFamily: I2C IO Expander; Voltage Nodes(V): 5; Interrupt Output: Yes; fSCLK(Max)(MHz): 0.4; VCC(Min)(V): 4.5; VCC(Max)(V): 5.5; Max Frequency(kHz): 400; I2C Address: 0100 xxx; # of I/Os: 16; DatasheetVersion: SCPS123E; PackageVersion: revE, Dec-2001; PackageReference: DB24; PackageDescription: 24-Pin Plastic Small Outline Package, 8.2 x 5.3 mm Body, 0.65 mm Pitch; Supplier 1: Digi-Key; Supplier Part Number 1: PCF8575CDBRE4-ND; Supplier 2: Mouser; Supplier Part Number 2: 595-PCF8575CDBRE4; Eco-Plan: Green (RoHS & no Sb/Br); Reset Input: No; Vcc range(V): 4.5 to 5.5; Open Drain I/O Type: Yes; Mounting Technology: Surface Mount; Code_JEDEC: MO-150; ComponentLink1Description: Datasheet; ComponentLink1URL: http://www.ti.com/general/docs/lit/getliterature.tsp?genericPartNumber=PCF8575C&fileType=pdf; ComponentLink2Description: Package Specification; ComponentLink2URL: http://www.ti.com/litv/pdf/mpds211a
footprint DB24_N (SOP, 24-Leads, Body 8.2x5.3mm, Pitch 0.65mm, IPC Medium Density)
footprint DB24_L (SOP, 24-Leads, Body 8.2x5.3mm, Pitch 0.65mm, IPC High Density)
footprint DB24_M (SOP, 24-Leads, Body 8.2x5.3mm, Pitch 0.65mm, IPC Low Density)
pins: 1 ~{INT} (oc) "Interrupt output. Connect to VCC through a pullup resistor.", 2 A1 (in) "Address input 1. Connect directly to VCC or ground. Pullup resistors are not needed.", 3 A2 (in) "Address input 2. Connect directly to VCC or ground. Pullup resistors are not needed.", 4 P00 (io) "P-port input/output. Push-pull design structure.Connect to VCC through a pullup resistor.", 5 P01 (io) "P-port input/output. Push-pull design structure.Connect to VCC through a pullup resistor.", 6 P02 (io) "P-port input/output. Push-pull design structure.Connect to VCC through a pullup resistor.", 7 P03 (io) "P-port input/output. Push-pull design structure.Connect to VCC through a pullup resistor.", 8 P04 (io) "P-port input/output. Push-pull design structure.Connect to VCC through a pullup resistor.", 9 P05 (io) "P-port input/output. Push-pull design structure.Connect to VCC through a pullup resistor.", 10 P06 (io) "P-port input/output. Push-pull design structure.Connect to VCC through a pullup resistor.", 11 P07 (io) "P-port input/output. Push-pull design structure.Connect to VCC through a pullup resistor.", 12 GND (power) "Ground", 13 P10 (io) "P-port input/output. Push-pull design structure.Connect to VCC through a pullup resistor.", 14 P11 (io) "P-port input/output. Push-pull design structure.Connect to VCC through a pullup resistor.", 15 P12 (io) "P-port input/output. Push-pull design structure.Connect to VCC through a pullup resistor.", 16 P13 (io) "P-port input/output. Push-pull design structure.Connect to VCC through a pullup resistor.", 17 P14 (io) "P-port input/output. Push-pull design structure.Connect to VCC through a pullup resistor.", 18 P15 (io) "P-port input/output. Push-pull design structure.Connect to VCC through a pullup resistor.", 19 P16 (io) "P-port input/output. Push-pull design structure.Connect to VCC through a pullup resistor.", 20 P17 (io) "P-port input/output. Push-pull design structure.Connect to VCC through a pullup resistor.", 21 A0 (in) "Address input 0. Connect directly to VCC or ground. Pullup resistors are not needed.", 22 SCL (in) "Serial clock line. Connect to VCC through a pullup resistor.", 23 SDA (io) "Serial data line. Connect to VCC through a pullup resistor.", 24 VCC (power) "Supply voltage"

## PCF8575CDBRG4
designator U?
Remote 16-Bit I2C and SMBus Low-Power I/O Expander with Interrupt Output, 4.5 to 5.5 V, -40 to 85 degC, 24-pin SSOP (DB), Green (RoHS & no Sb/Br); Manufacturer: Texas Instruments; PartNumber: PCF8575CDBRG4; SubFamily: I2C IO Expander; Voltage Nodes(V): 5; Interrupt Output: Yes; fSCLK(Max)(MHz): 0.4; VCC(Min)(V): 4.5; VCC(Max)(V): 5.5; Max Frequency(kHz): 400; I2C Address: 0100 xxx; # of I/Os: 16; DatasheetVersion: SCPS123E; PackageVersion: revE, Dec-2001; PackageReference: DB24; PackageDescription: 24-Pin Plastic Small Outline Package, 8.2 x 5.3 mm Body, 0.65 mm Pitch; Supplier 1: Digi-Key; Supplier Part Number 1: PCF8575CDBRG4-ND; Supplier 2: Mouser; Supplier Part Number 2: 595-PCF8575CDBRG4; Eco-Plan: Green (RoHS & no Sb/Br); Reset Input: No; Vcc range(V): 4.5 to 5.5; Open Drain I/O Type: Yes; Mounting Technology: Surface Mount; Code_JEDEC: MO-150; ComponentLink1Description: Datasheet; ComponentLink1URL: http://www.ti.com/general/docs/lit/getliterature.tsp?genericPartNumber=PCF8575C&fileType=pdf; ComponentLink2Description: Package Specification; ComponentLink2URL: http://www.ti.com/litv/pdf/msso002e
footprint DB24_N (SOP, 24-Leads, Body 8.2x5.3mm, Pitch 0.65mm, IPC Medium Density)
footprint DB24_L (SOP, 24-Leads, Body 8.2x5.3mm, Pitch 0.65mm, IPC High Density)
footprint DB24_M (SOP, 24-Leads, Body 8.2x5.3mm, Pitch 0.65mm, IPC Low Density)
pins: 1 ~{INT} (oc) "Interrupt output. Connect to VCC through a pullup resistor.", 2 A1 (in) "Address input 1. Connect directly to VCC or ground. Pullup resistors are not needed.", 3 A2 (in) "Address input 2. Connect directly to VCC or ground. Pullup resistors are not needed.", 4 P00 (io) "P-port input/output. Push-pull design structure.Connect to VCC through a pullup resistor.", 5 P01 (io) "P-port input/output. Push-pull design structure.Connect to VCC through a pullup resistor.", 6 P02 (io) "P-port input/output. Push-pull design structure.Connect to VCC through a pullup resistor.", 7 P03 (io) "P-port input/output. Push-pull design structure.Connect to VCC through a pullup resistor.", 8 P04 (io) "P-port input/output. Push-pull design structure.Connect to VCC through a pullup resistor.", 9 P05 (io) "P-port input/output. Push-pull design structure.Connect to VCC through a pullup resistor.", 10 P06 (io) "P-port input/output. Push-pull design structure.Connect to VCC through a pullup resistor.", 11 P07 (io) "P-port input/output. Push-pull design structure.Connect to VCC through a pullup resistor.", 12 GND (power) "Ground", 13 P10 (io) "P-port input/output. Push-pull design structure.Connect to VCC through a pullup resistor.", 14 P11 (io) "P-port input/output. Push-pull design structure.Connect to VCC through a pullup resistor.", 15 P12 (io) "P-port input/output. Push-pull design structure.Connect to VCC through a pullup resistor.", 16 P13 (io) "P-port input/output. Push-pull design structure.Connect to VCC through a pullup resistor.", 17 P14 (io) "P-port input/output. Push-pull design structure.Connect to VCC through a pullup resistor.", 18 P15 (io) "P-port input/output. Push-pull design structure.Connect to VCC through a pullup resistor.", 19 P16 (io) "P-port input/output. Push-pull design structure.Connect to VCC through a pullup resistor.", 20 P17 (io) "P-port input/output. Push-pull design structure.Connect to VCC through a pullup resistor.", 21 A0 (in) "Address input 0. Connect directly to VCC or ground. Pullup resistors are not needed.", 22 SCL (in) "Serial clock line. Connect to VCC through a pullup resistor.", 23 SDA (io) "Serial data line. Connect to VCC through a pullup resistor.", 24 VCC (power) "Supply voltage"

## PCF8575CDGVR
designator U?
Remote 16-Bit I2C and SMBus I/O Expander with Interrupt Output, 4.5 to 5.5 V, -40 to 85 degC, 24-pin TVSOP (DGV), Green (RoHS & no Sb/Br); Manufacturer: Texas Instruments; PartNumber: PCF8575CDGVR; SubFamily: I2C IO Expander; Voltage Nodes(V): 5; Interrupt Output: Yes; fSCLK(Max)(MHz): 0.4; VCC(Min)(V): 4.5; VCC(Max)(V): 5.5; Max Frequency(kHz): 400; I2C Address: 0100 xxx; # of I/Os: 16; DatasheetVersion: SCPS123E; PackageVersion: revE, Aug-2000; PackageReference: DGV24; PackageDescription: 24-Pin Thin Shrink Small Outline Package 0.4 mm Pitch; Supplier 1: Digi-Key; Supplier Part Number 1: 296-17914-2-ND; Supplier 2: Digi-Key; Supplier Part Number 2: 296-17914-1-ND; Supplier 3: Digi-Key; Supplier Part Number 3: 296-17914-6-ND; Supplier 4: Mouser; Supplier Part Number 4: 595-PCF8575CDGVR; Eco-Plan: Green (RoHS & no Sb/Br); Reset Input: No; Vcc range(V): 4.5 to 5.5; Open Drain I/O Type: Yes; Mounting Technology: Surface Mount; ComponentLink1Description: Datasheet; ComponentLink1URL: http://www.ti.com/general/docs/lit/getliterature.tsp?genericPartNumber=PCF8575C&fileType=pdf; ComponentLink2Description: Package Specification; ComponentLink2URL: http://www.ti.com/litv/pdf/msso002e
footprint DGV24_N (TSSOP, 24-Leads, Body 5x4.4mm, Pitch 0.4mm, IPC Medium Density)
footprint DGV24_L (TSSOP, 24-Leads, Body 5x4.4mm, Pitch 0.4mm, IPC High Density)
footprint DGV24_M (TSSOP, 24-Leads, Body 5x4.4mm, Pitch 0.4mm, IPC Low Density)
pins: 1 ~{INT} (oc) "Interrupt output. Connect to VCC through a pullup resistor.", 2 A1 (in) "Address input 1. Connect directly to VCC or ground. Pullup resistors are not needed.", 3 A2 (in) "Address input 2. Connect directly to VCC or ground. Pullup resistors are not needed.", 4 P00 (io) "P-port input/output. Open-drain design structure. Connect to VCC through a pullup resistor.", 5 P01 (io) "P-port input/output. Open-drain design structure. Connect to VCC through a pullup resistor.", 6 P02 (io) "P-port input/output. Open-drain design structure. Connect to VCC through a pullup resistor.", 7 P03 (io) "P-port input/output. Open-drain design structure. Connect to VCC through a pullup resistor.", 8 P04 (io) "P-port input/output. Open-drain design structure. Connect to VCC through a pullup resistor.", 9 P05 (io) "P-port input/output. Open-drain design structure. Connect to VCC through a pullup resistor.", 10 P06 (io) "P-port input/output. Open-drain design structure. Connect to VCC through a pullup resistor.", 11 P07 (io) "P-port input/output. Open-drain design structure. Connect to VCC through a pullup resistor.", 12 GND (power) "Ground", 13 P10 (io) "P-port input/output. Open-drain design structure. Connect to VCC through a pullup resistor.", 14 P11 (io) "P-port input/output. Open-drain design structure. Connect to VCC through a pullup resistor.", 15 P12 (io) "P-port input/output. Open-drain design structure. Connect to VCC through a pullup resistor.", 16 P13 (io) "P-port input/output. Open-drain design structure. Connect to VCC through a pullup resistor.", 17 P14 (io) "P-port input/output. Open-drain design structure. Connect to VCC through a pullup resistor.", 18 P15 (io) "P-port input/output. Open-drain design structure. Connect to VCC through a pullup resistor.", 19 P16 (io) "P-port input/output. Open-drain design structure. Connect to VCC through a pullup resistor.", 20 P17 (io) "P-port input/output. Open-drain design structure. Connect to VCC through a pullup resistor.", 21 A0 (in) "Address input 0. Connect directly to VCC or ground. Pullup resistors are not needed.", 22 SCL (in) "Serial clock line. Connect to VCC through a pullup resistor.", 23 SDA (io) "Serial data line. Connect to VCC through a pullup resistor.", 24 VCC (power) "Supply voltage."